# EAGLE library part ULN2803AN (library Project2)
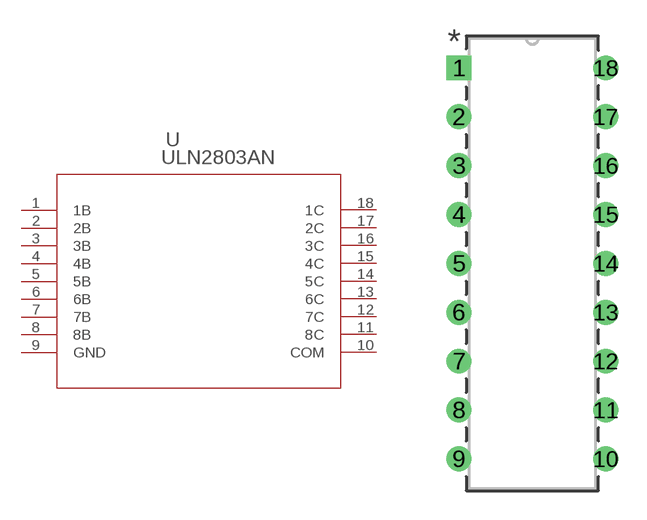
[diagram p1: symbol with the pads of N18_TEX; footprint N18_TEX]

Designator prefix U

## ULN2803AN (COPYRIGHT: Copyright (C) 2021 Ultra Librarian. All rights reserved.; MANUFACTURER_PART_NUMBER: ULN2803AN; MFR_NAME: Texas Instruments)  [N18_TEX]
1  1B  pas
2  2B  pas
3  3B  pas
4  4B  pas
5  5B  pas
6  6B  pas
7  7B  pas
8  8B  pas
9  GND  pas
10  COM  pas
11  8C  pas
12  7C  pas
13  6C  pas
14  5C  pas
15  4C  pas
16  3C  pas
17  2C  pas
18  1C  pas

## Footprint N18_TEX (pad centres in mm)
drill 0.787 pad 1.295 square: 1 0,0
drill 0.787 pad 1.295: 2 0,-2.54; 3 0,-5.08; 4 0,-7.62; 5 0,-10.16; 6 0,-12.7; 7 0,-15.24; 8 0,-17.78; 9 0,-20.32; 10 7.62,-20.32; 11 7.62,-17.78; 12 7.62,-15.24; 13 7.62,-12.7; 14 7.62,-10.16; 15 7.62,-7.62; 16 7.62,-5.08; 17 7.62,-2.54; 18 7.62,0